# EAGLE library part XCV600E_BG560 (library xilinx-xcv)
xcv600e_bg560 edit this description Auto generated by make-symbol-device-package-bsdl.ulp Rev. 26 Source: xcv600e_bg560.bsd
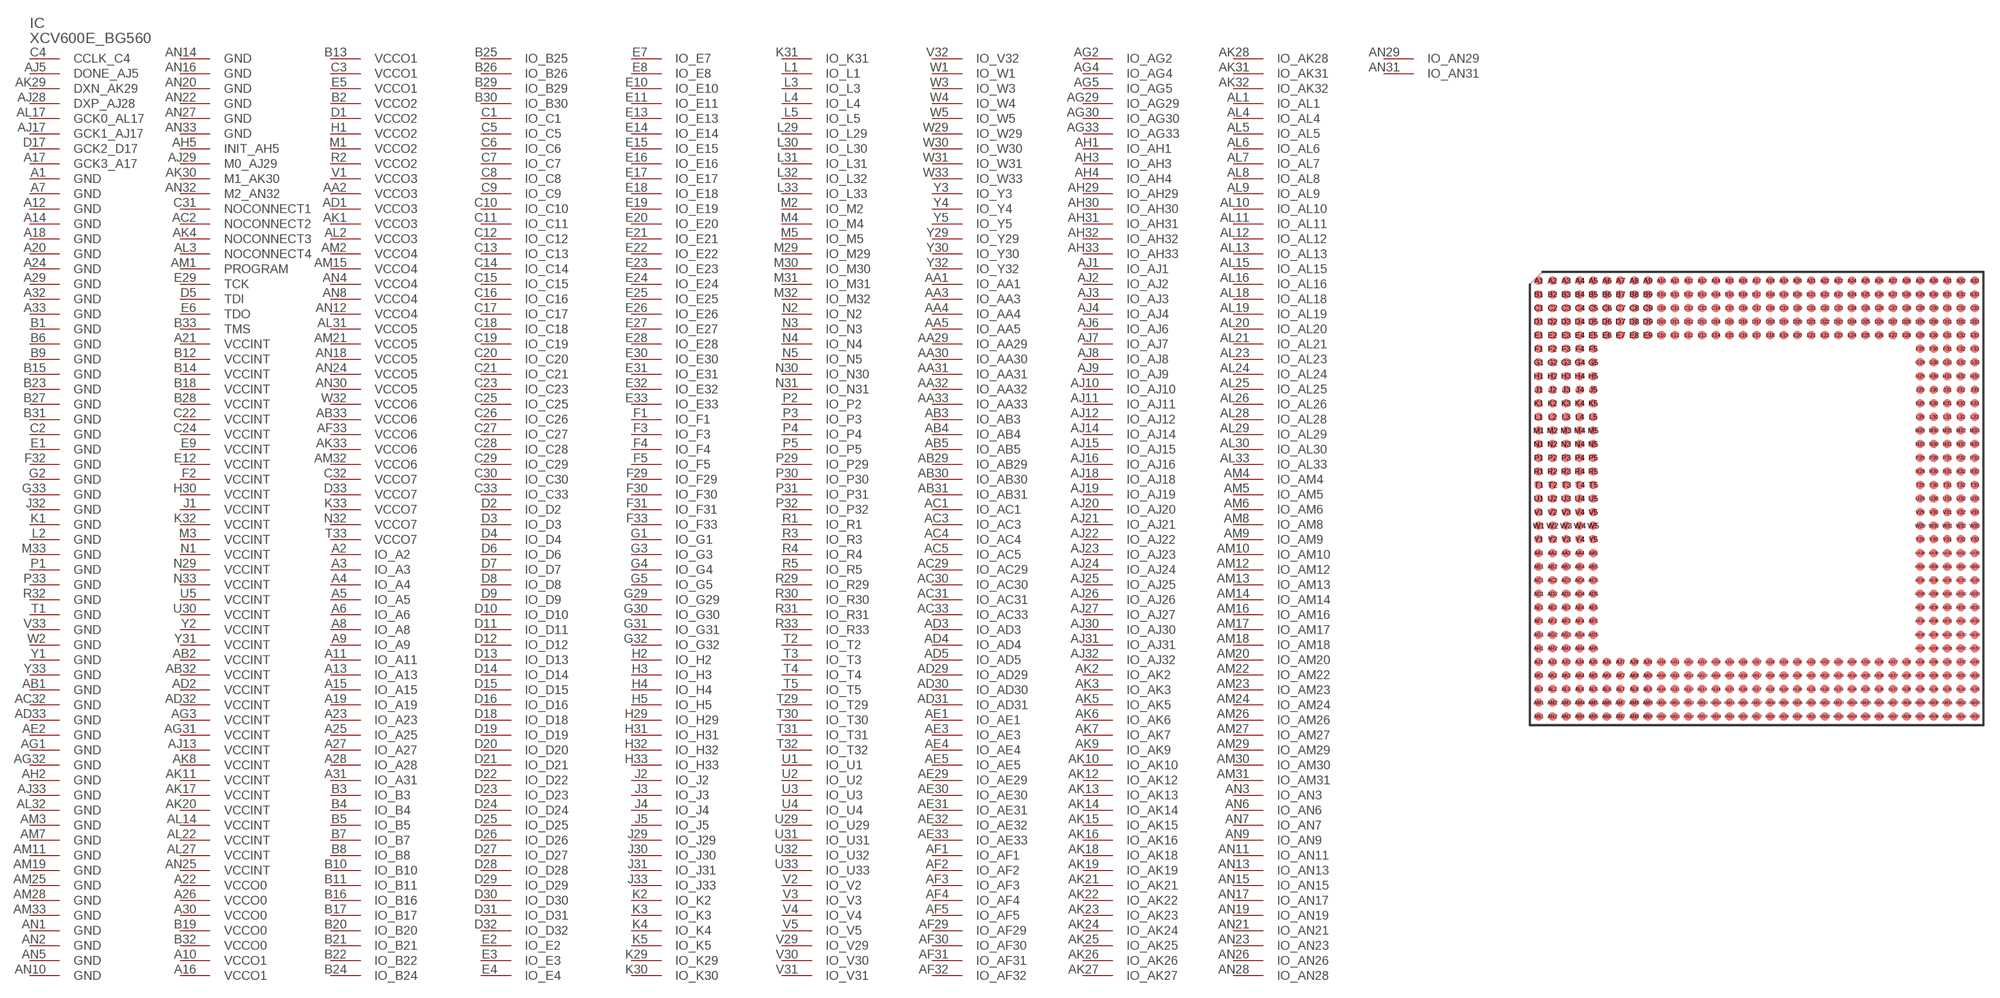
[diagram p115: symbol with the pads of BG560; footprint BG560]

Designator prefix IC

## XCV600E_BG560  [BG560]
A1  GND  pwr
A2  IO_A2
A3  IO_A3
A4  IO_A4
A5  IO_A5
A6  IO_A6
A7  GND  pwr
A8  IO_A8
A9  IO_A9
A10  VCCO1  pwr
A11  IO_A11
A12  GND  pwr
A13  IO_A13
A14  GND  pwr
A15  IO_A15
A16  VCCO1  pwr
A17  GCK3_A17  in
A18  GND  pwr
A19  IO_A19
A20  GND  pwr
A21  VCCINT  pwr
A22  VCCO0  pwr
A23  IO_A23
A24  GND  pwr
A25  IO_A25
A26  VCCO0  pwr
A27  IO_A27
A28  IO_A28
A29  GND  pwr
A30  VCCO0  pwr
A31  IO_A31
A32  GND  pwr
A33  GND  pwr
AA1  IO_AA1
AA2  VCCO3  pwr
AA3  IO_AA3
AA4  IO_AA4
AA5  IO_AA5
AA29  IO_AA29
AA30  IO_AA30
AA31  IO_AA31
AA32  IO_AA32
AA33  IO_AA33
AB1  GND  pwr
AB2  VCCINT  pwr
AB3  IO_AB3
AB4  IO_AB4
AB5  IO_AB5
AB29  IO_AB29
AB30  IO_AB30
AB31  IO_AB31
AB32  VCCINT  pwr
AB33  VCCO6  pwr
AC1  IO_AC1
AC2  NOCONNECT2  pas
AC3  IO_AC3
AC4  IO_AC4
AC5  IO_AC5
AC29  IO_AC29
AC30  IO_AC30
AC31  IO_AC31
AC32  GND  pwr
AC33  IO_AC33
AD1  VCCO3  pwr
AD2  VCCINT  pwr
AD3  IO_AD3
AD4  IO_AD4
AD5  IO_AD5
AD29  IO_AD29
AD30  IO_AD30
AD31  IO_AD31
AD32  VCCINT  pwr
AD33  GND  pwr
AE1  IO_AE1
AE2  GND  pwr
AE3  IO_AE3
AE4  IO_AE4
AE5  IO_AE5
AE29  IO_AE29
AE30  IO_AE30
AE31  IO_AE31
AE32  IO_AE32
AE33  IO_AE33
AF1  IO_AF1
AF2  IO_AF2
AF3  IO_AF3
AF4  IO_AF4
AF5  IO_AF5
AF29  IO_AF29
AF30  IO_AF30
AF31  IO_AF31
AF32  IO_AF32
AF33  VCCO6  pwr
AG1  GND  pwr
AG2  IO_AG2
AG3  VCCINT  pwr
AG4  IO_AG4
AG5  IO_AG5
AG29  IO_AG29
AG30  IO_AG30
AG31  VCCINT  pwr
AG32  GND  pwr
AG33  IO_AG33
AH1  IO_AH1
AH2  GND  pwr
AH3  IO_AH3
AH4  IO_AH4
AH5  INIT_AH5
AH29  IO_AH29
AH30  IO_AH30
AH31  IO_AH31
AH32  IO_AH32
AH33  IO_AH33
AJ1  IO_AJ1
AJ2  IO_AJ2
AJ3  IO_AJ3
AJ4  IO_AJ4
AJ5  DONE_AJ5
AJ6  IO_AJ6
AJ7  IO_AJ7
AJ8  IO_AJ8
AJ9  IO_AJ9
AJ10  IO_AJ10
AJ11  IO_AJ11
AJ12  IO_AJ12
AJ13  VCCINT  pwr
AJ14  IO_AJ14
AJ15  IO_AJ15
AJ16  IO_AJ16
AJ17  GCK1_AJ17  in
AJ18  IO_AJ18
AJ19  IO_AJ19
AJ20  IO_AJ20
AJ21  IO_AJ21
AJ22  IO_AJ22
AJ23  IO_AJ23
AJ24  IO_AJ24
AJ25  IO_AJ25
AJ26  IO_AJ26
AJ27  IO_AJ27
AJ28  DXP_AJ28  pas
AJ29  M0_AJ29  in
AJ30  IO_AJ30
AJ31  IO_AJ31
AJ32  IO_AJ32
AJ33  GND  pwr
AK1  VCCO3  pwr
AK2  IO_AK2
AK3  IO_AK3
AK4  NOCONNECT3  pas
AK5  IO_AK5
AK6  IO_AK6
AK7  IO_AK7
AK8  VCCINT  pwr
AK9  IO_AK9
AK10  IO_AK10
AK11  VCCINT  pwr
AK12  IO_AK12
AK13  IO_AK13
AK14  IO_AK14
AK15  IO_AK15
AK16  IO_AK16
AK17  VCCINT  pwr
AK18  IO_AK18
AK19  IO_AK19
AK20  VCCINT  pwr
AK21  IO_AK21
AK22  IO_AK22
AK23  IO_AK23
AK24  IO_AK24
AK25  IO_AK25
AK26  IO_AK26
AK27  IO_AK27
AK28  IO_AK28
AK29  DXN_AK29  pas
AK30  M1_AK30  in
AK31  IO_AK31
AK32  IO_AK32
AK33  VCCO6  pwr
AL1  IO_AL1
AL2  VCCO3  pwr
AL3  NOCONNECT4  pas
AL4  IO_AL4
AL5  IO_AL5
AL6  IO_AL6
AL7  IO_AL7
AL8  IO_AL8
AL9  IO_AL9
AL10  IO_AL10
AL11  IO_AL11
AL12  IO_AL12
AL13  IO_AL13
AL14  VCCINT  pwr
AL15  IO_AL15
AL16  IO_AL16
AL17  GCK0_AL17  in
AL18  IO_AL18
AL19  IO_AL19
AL20  IO_AL20
AL21  IO_AL21
AL22  VCCINT  pwr
AL23  IO_AL23
AL24  IO_AL24
AL25  IO_AL25
AL26  IO_AL26
AL27  VCCINT  pwr
AL28  IO_AL28
AL29  IO_AL29
AL30  IO_AL30
AL31  VCCO5  pwr
AL32  GND  pwr
AL33  IO_AL33
AM1  PROGRAM  in
AM2  VCCO4  pwr
AM3  GND  pwr
AM4  IO_AM4
AM5  IO_AM5
AM6  IO_AM6
AM7  GND  pwr
AM8  IO_AM8
AM9  IO_AM9
AM10  IO_AM10
AM11  GND  pwr
AM12  IO_AM12
AM13  IO_AM13
AM14  IO_AM14
AM15  VCCO4  pwr
AM16  IO_AM16
AM17  IO_AM17
AM18  IO_AM18
AM19  GND  pwr
AM20  IO_AM20
AM21  VCCO5  pwr
AM22  IO_AM22
AM23  IO_AM23
AM24  IO_AM24
AM25  GND  pwr
AM26  IO_AM26
AM27  IO_AM27
AM28  GND  pwr
AM29  IO_AM29
AM30  IO_AM30
AM31  IO_AM31
AM32  VCCO6  pwr
AM33  GND  pwr
AN1  GND  pwr
AN2  GND  pwr
AN3  IO_AN3
AN4  VCCO4  pwr
AN5  GND  pwr
AN6  IO_AN6
AN7  IO_AN7
AN8  VCCO4  pwr
AN9  IO_AN9
AN10  GND  pwr
AN11  IO_AN11
AN12  VCCO4  pwr
AN13  IO_AN13
AN14  GND  pwr
AN15  IO_AN15
AN16  GND  pwr
AN17  IO_AN17
AN18  VCCO5  pwr
AN19  IO_AN19
AN20  GND  pwr
AN21  IO_AN21
AN22  GND  pwr
AN23  IO_AN23
AN24  VCCO5  pwr
AN25  VCCINT  pwr
AN26  IO_AN26
AN27  GND  pwr
AN28  IO_AN28
AN29  IO_AN29
AN30  VCCO5  pwr
AN31  IO_AN31
AN32  M2_AN32  in
AN33  GND  pwr
B1  GND  pwr
B2  VCCO2  pwr
B3  IO_B3
B4  IO_B4
B5  IO_B5
B6  GND  pwr
B7  IO_B7
B8  IO_B8
B9  GND  pwr
B10  IO_B10
B11  IO_B11
B12  VCCINT  pwr
B13  VCCO1  pwr
B14  VCCINT  pwr
B15  GND  pwr
B16  IO_B16
B17  IO_B17
B18  VCCINT  pwr
B19  VCCO0  pwr
B20  IO_B20
B21  IO_B21
B22  IO_B22
B23  GND  pwr
B24  IO_B24
B25  IO_B25
B26  IO_B26
B27  GND  pwr
B28  VCCINT  pwr
B29  IO_B29
B30  IO_B30
B31  GND  pwr
B32  VCCO0  pwr
B33  TMS  in
C1  IO_C1
C2  GND  pwr
C3  VCCO1  pwr
C4  CCLK_C4
C5  IO_C5
C6  IO_C6
C7  IO_C7
C8  IO_C8
C9  IO_C9
C10  IO_C10
C11  IO_C11
C12  IO_C12
C13  IO_C13
C14  IO_C14
C15  IO_C15
C16  IO_C16
C17  IO_C17
C18  IO_C18
C19  IO_C19
C20  IO_C20
C21  IO_C21
C22  VCCINT  pwr
C23  IO_C23
C24  VCCINT  pwr
C25  IO_C25
C26  IO_C26
C27  IO_C27
C28  IO_C28
C29  IO_C29
C30  IO_C30
C31  NOCONNECT1  pas
C32  VCCO7  pwr
C33  IO_C33
D1  VCCO2  pwr
D2  IO_D2
D3  IO_D3
D4  IO_D4
D5  TDI  in
D6  IO_D6
D7  IO_D7
D8  IO_D8
D9  IO_D9
D10  IO_D10
D11  IO_D11
D12  IO_D12
D13  IO_D13
D14  IO_D14
D15  IO_D15
D16  IO_D16
D17  GCK2_D17  in
D18  IO_D18
D19  IO_D19
D20  IO_D20
D21  IO_D21
D22  IO_D22
D23  IO_D23
D24  IO_D24
D25  IO_D25
D26  IO_D26
D27  IO_D27
D28  IO_D28
D29  IO_D29
D30  IO_D30
D31  IO_D31
D32  IO_D32
D33  VCCO7  pwr
E1  GND  pwr
E2  IO_E2
E3  IO_E3
E4  IO_E4
E5  VCCO1  pwr
E6  TDO  out
E7  IO_E7
E8  IO_E8
E9  VCCINT  pwr
E10  IO_E10
E11  IO_E11
E12  VCCINT  pwr
E13  IO_E13
E14  IO_E14
E15  IO_E15
E16  IO_E16
E17  IO_E17
E18  IO_E18
E19  IO_E19
E20  IO_E20
E21  IO_E21
E22  IO_E22
E23  IO_E23
E24  IO_E24
E25  IO_E25
E26  IO_E26
E27  IO_E27
E28  IO_E28
E29  TCK  in
E30  IO_E30
E31  IO_E31
E32  IO_E32
E33  IO_E33
F1  IO_F1
F2  VCCINT  pwr
F3  IO_F3
F4  IO_F4
F5  IO_F5
F29  IO_F29
F30  IO_F30
F31  IO_F31
F32  GND  pwr
F33  IO_F33
G1  IO_G1
G2  GND  pwr
G3  IO_G3
G4  IO_G4
G5  IO_G5
G29  IO_G29
G30  IO_G30
G31  IO_G31
G32  IO_G32
G33  GND  pwr
H1  VCCO2  pwr
H2  IO_H2
H3  IO_H3
H4  IO_H4
H5  IO_H5
H29  IO_H29
H30  VCCINT  pwr
H31  IO_H31
H32  IO_H32
H33  IO_H33
J1  VCCINT  pwr
J2  IO_J2
J3  IO_J3
J4  IO_J4
J5  IO_J5
J29  IO_J29
J30  IO_J30
J31  IO_J31
J32  GND  pwr
J33  IO_J33
K1  GND  pwr
K2  IO_K2
K3  IO_K3
K4  IO_K4
K5  IO_K5
K29  IO_K29
K30  IO_K30
K31  IO_K31
K32  VCCINT  pwr
K33  VCCO7  pwr
L1  IO_L1
L2  GND  pwr
L3  IO_L3
L4  IO_L4
L5  IO_L5
L29  IO_L29
L30  IO_L30
L31  IO_L31
L32  IO_L32
L33  IO_L33
M1  VCCO2  pwr
M2  IO_M2
M3  VCCINT  pwr
M4  IO_M4
M5  IO_M5
M29  IO_M29
M30  IO_M30
M31  IO_M31
M32  IO_M32
M33  GND  pwr
N1  VCCINT  pwr
N2  IO_N2
N3  IO_N3
N4  IO_N4
N5  IO_N5
N29  VCCINT  pwr
N30  IO_N30
N31  IO_N31
N32  VCCO7  pwr
N33  VCCINT  pwr
P1  GND  pwr
P2  IO_P2
P3  IO_P3
P4  IO_P4
P5  IO_P5
P29  IO_P29
P30  IO_P30
P31  IO_P31
P32  IO_P32
P33  GND  pwr
R1  IO_R1
R2  VCCO2  pwr
R3  IO_R3
R4  IO_R4
R5  IO_R5
R29  IO_R29
R30  IO_R30
R31  IO_R31
R32  GND  pwr
R33  IO_R33
T1  GND  pwr
T2  IO_T2
T3  IO_T3
T4  IO_T4
T5  IO_T5
T29  IO_T29
T30  IO_T30
T31  IO_T31
T32  IO_T32
T33  VCCO7  pwr
U1  IO_U1
U2  IO_U2
U3  IO_U3
U4  IO_U4
U5  VCCINT  pwr
U29  IO_U29
U30  VCCINT  pwr
U31  IO_U31
U32  IO_U32
U33  IO_U33
V1  VCCO3  pwr
V2  IO_V2
V3  IO_V3
V4  IO_V4
V5  IO_V5
V29  IO_V29
V30  IO_V30
V31  IO_V31
V32  IO_V32
V33  GND  pwr
W1  IO_W1
W2  GND  pwr
W3  IO_W3
W4  IO_W4
W5  IO_W5
W29  IO_W29
W30  IO_W30
W31  IO_W31
W32  VCCO6  pwr
W33  IO_W33
Y1  GND  pwr
Y2  VCCINT  pwr
Y3  IO_Y3
Y4  IO_Y4
Y5  IO_Y5
Y29  IO_Y29
Y30  IO_Y30
Y31  VCCINT  pwr
Y32  IO_Y32
Y33  GND  pwr

## Footprint BG560 (pad centres in mm)
Metal BGA (BG560) Auto generated by make-symbol-device-package-bsdl.ulp Rev. 26 Source: xcv1000_bg560_1532.bsd; bg560.pdf
smd 0.8 x 0.8: A1 -20.32,20.32; A2 -19.05,20.32; A3 -17.78,20.32; A4 -16.51,20.32; A5 -15.24,20.32; A6 -13.97,20.32; A7 -12.7,20.32; A8 -11.43,20.32; A9 -10.16,20.32; A10 -8.89,20.32; A11 -7.62,20.32; A12 -6.35,20.32; A13 -5.08,20.32; A14 -3.81,20.32; A15 -2.54,20.32; A16 -1.27,20.32; A17 0,20.32; A18 1.27,20.32; A19 2.54,20.32; A20 3.81,20.32; A21 5.08,20.32; A22 6.35,20.32; A23 7.62,20.32; A24 8.89,20.32; A25 10.16,20.32; A26 11.43,20.32; A27 12.7,20.32; A28 13.97,20.32; A29 15.24,20.32; A30 16.51,20.32; A31 17.78,20.32; A32 19.05,20.32; A33 20.32,20.32; AA1 -20.32,-5.08; AA2 -19.05,-5.08; AA3 -17.78,-5.08; AA4 -16.51,-5.08; AA5 -15.24,-5.08; AA29 15.24,-5.08; AA30 16.51,-5.08; AA31 17.78,-5.08; AA32 19.05,-5.08; AA33 20.32,-5.08; AB1 -20.32,-6.35; AB2 -19.05,-6.35; AB3 -17.78,-6.35; AB4 -16.51,-6.35; AB5 -15.24,-6.35; AB29 15.24,-6.35; AB30 16.51,-6.35; AB31 17.78,-6.35; AB32 19.05,-6.35; AB33 20.32,-6.35; AC1 -20.32,-7.62; AC2 -19.05,-7.62; AC3 -17.78,-7.62; AC4 -16.51,-7.62; AC5 -15.24,-7.62; AC29 15.24,-7.62; AC30 16.51,-7.62; AC31 17.78,-7.62; AC32 19.05,-7.62; AC33 20.32,-7.62; AD1 -20.32,-8.89; AD2 -19.05,-8.89; AD3 -17.78,-8.89; AD4 -16.51,-8.89; AD5 -15.24,-8.89; AD29 15.24,-8.89; AD30 16.51,-8.89; AD31 17.78,-8.89; AD32 19.05,-8.89; AD33 20.32,-8.89; AE1 -20.32,-10.16; AE2 -19.05,-10.16; AE3 -17.78,-10.16; AE4 -16.51,-10.16; AE5 -15.24,-10.16; AE29 15.24,-10.16; AE30 16.51,-10.16; AE31 17.78,-10.16; AE32 19.05,-10.16; AE33 20.32,-10.16; AF1 -20.32,-11.43; AF2 -19.05,-11.43; AF3 -17.78,-11.43; AF4 -16.51,-11.43; AF5 -15.24,-11.43; AF29 15.24,-11.43; AF30 16.51,-11.43; AF31 17.78,-11.43; AF32 19.05,-11.43; AF33 20.32,-11.43; AG1 -20.32,-12.7; AG2 -19.05,-12.7; AG3 -17.78,-12.7; AG4 -16.51,-12.7; AG5 -15.24,-12.7; AG29 15.24,-12.7; AG30 16.51,-12.7; AG31 17.78,-12.7; AG32 19.05,-12.7; AG33 20.32,-12.7; AH1 -20.32,-13.97; AH2 -19.05,-13.97; AH3 -17.78,-13.97; AH4 -16.51,-13.97; AH5 -15.24,-13.97; AH29 15.24,-13.97; AH30 16.51,-13.97; AH31 17.78,-13.97; AH32 19.05,-13.97; AH33 20.32,-13.97; AJ1 -20.32,-15.24; AJ2 -19.05,-15.24; AJ3 -17.78,-15.24; AJ4 -16.51,-15.24; AJ5 -15.24,-15.24; AJ6 -13.97,-15.24; AJ7 -12.7,-15.24; AJ8 -11.43,-15.24; AJ9 -10.16,-15.24; AJ10 -8.89,-15.24; AJ11 -7.62,-15.24; AJ12 -6.35,-15.24; AJ13 -5.08,-15.24; AJ14 -3.81,-15.24; AJ15 -2.54,-15.24; AJ16 -1.27,-15.24; AJ17 0,-15.24; AJ18 1.27,-15.24; AJ19 2.54,-15.24; AJ20 3.81,-15.24; AJ21 5.08,-15.24; AJ22 6.35,-15.24; AJ23 7.62,-15.24; AJ24 8.89,-15.24; AJ25 10.16,-15.24; AJ26 11.43,-15.24; AJ27 12.7,-15.24; AJ28 13.97,-15.24; AJ29 15.24,-15.24; AJ30 16.51,-15.24; AJ31 17.78,-15.24; AJ32 19.05,-15.24; AJ33 20.32,-15.24; AK1 -20.32,-16.51; AK2 -19.05,-16.51; AK3 -17.78,-16.51; AK4 -16.51,-16.51; AK5 -15.24,-16.51; AK6 -13.97,-16.51; AK7 -12.7,-16.51; AK8 -11.43,-16.51; AK9 -10.16,-16.51; AK10 -8.89,-16.51; AK11 -7.62,-16.51; AK12 -6.35,-16.51; AK13 -5.08,-16.51; AK14 -3.81,-16.51; AK15 -2.54,-16.51; AK16 -1.27,-16.51; AK17 0,-16.51; AK18 1.27,-16.51; AK19 2.54,-16.51; AK20 3.81,-16.51; AK21 5.08,-16.51; AK22 6.35,-16.51; AK23 7.62,-16.51; AK24 8.89,-16.51; AK25 10.16,-16.51; AK26 11.43,-16.51; AK27 12.7,-16.51; AK28 13.97,-16.51; AK29 15.24,-16.51; AK30 16.51,-16.51; AK31 17.78,-16.51; AK32 19.05,-16.51; AK33 20.32,-16.51; AL1 -20.32,-17.78; AL2 -19.05,-17.78; AL3 -17.78,-17.78; AL4 -16.51,-17.78; AL5 -15.24,-17.78; AL6 -13.97,-17.78; AL7 -12.7,-17.78; AL8 -11.43,-17.78; AL9 -10.16,-17.78; AL10 -8.89,-17.78; AL11 -7.62,-17.78; AL12 -6.35,-17.78; AL13 -5.08,-17.78; AL14 -3.81,-17.78; AL15 -2.54,-17.78; AL16 -1.27,-17.78; AL17 0,-17.78; AL18 1.27,-17.78; AL19 2.54,-17.78; AL20 3.81,-17.78; AL21 5.08,-17.78; AL22 6.35,-17.78; AL23 7.62,-17.78; AL24 8.89,-17.78; AL25 10.16,-17.78; AL26 11.43,-17.78; AL27 12.7,-17.78; AL28 13.97,-17.78; AL29 15.24,-17.78; AL30 16.51,-17.78; AL31 17.78,-17.78; AL32 19.05,-17.78; AL33 20.32,-17.78; AM1 -20.32,-19.05; AM2 -19.05,-19.05; AM3 -17.78,-19.05; AM4 -16.51,-19.05; AM5 -15.24,-19.05; AM6 -13.97,-19.05; AM7 -12.7,-19.05; AM8 -11.43,-19.05; AM9 -10.16,-19.05; AM10 -8.89,-19.05; AM11 -7.62,-19.05; AM12 -6.35,-19.05; AM13 -5.08,-19.05; AM14 -3.81,-19.05; AM15 -2.54,-19.05; AM16 -1.27,-19.05; AM17 0,-19.05; AM18 1.27,-19.05; AM19 2.54,-19.05; AM20 3.81,-19.05; AM21 5.08,-19.05; AM22 6.35,-19.05; AM23 7.62,-19.05; AM24 8.89,-19.05; AM25 10.16,-19.05; AM26 11.43,-19.05; AM27 12.7,-19.05; AM28 13.97,-19.05; AM29 15.24,-19.05; AM30 16.51,-19.05; AM31 17.78,-19.05; AM32 19.05,-19.05; AM33 20.32,-19.05; AN1 -20.32,-20.32; AN2 -19.05,-20.32; AN3 -17.78,-20.32; AN4 -16.51,-20.32; AN5 -15.24,-20.32; AN6 -13.97,-20.32; AN7 -12.7,-20.32; AN8 -11.43,-20.32; AN9 -10.16,-20.32; AN10 -8.89,-20.32; AN11 -7.62,-20.32; AN12 -6.35,-20.32; AN13 -5.08,-20.32; AN14 -3.81,-20.32; AN15 -2.54,-20.32; AN16 -1.27,-20.32; AN17 0,-20.32; AN18 1.27,-20.32; AN19 2.54,-20.32; AN20 3.81,-20.32; AN21 5.08,-20.32; AN22 6.35,-20.32; AN23 7.62,-20.32; AN24 8.89,-20.32; AN25 10.16,-20.32; AN26 11.43,-20.32; AN27 12.7,-20.32; AN28 13.97,-20.32; AN29 15.24,-20.32; AN30 16.51,-20.32; AN31 17.78,-20.32; AN32 19.05,-20.32; AN33 20.32,-20.32; B1 -20.32,19.05; B2 -19.05,19.05; B3 -17.78,19.05; B4 -16.51,19.05; B5 -15.24,19.05; B6 -13.97,19.05; B7 -12.7,19.05; B8 -11.43,19.05; B9 -10.16,19.05; B10 -8.89,19.05; B11 -7.62,19.05; B12 -6.35,19.05; B13 -5.08,19.05; B14 -3.81,19.05; B15 -2.54,19.05; B16 -1.27,19.05; B17 0,19.05; B18 1.27,19.05; B19 2.54,19.05; B20 3.81,19.05; B21 5.08,19.05; B22 6.35,19.05; B23 7.62,19.05; B24 8.89,19.05; B25 10.16,19.05; B26 11.43,19.05; B27 12.7,19.05; B28 13.97,19.05; B29 15.24,19.05; B30 16.51,19.05; B31 17.78,19.05; B32 19.05,19.05; B33 20.32,19.05; C1 -20.32,17.78; C2 -19.05,17.78; C3 -17.78,17.78; C4 -16.51,17.78; C5 -15.24,17.78; C6 -13.97,17.78; C7 -12.7,17.78; C8 -11.43,17.78; C9 -10.16,17.78; C10 -8.89,17.78; C11 -7.62,17.78; C12 -6.35,17.78; C13 -5.08,17.78; C14 -3.81,17.78; C15 -2.54,17.78; C16 -1.27,17.78; C17 0,17.78; C18 1.27,17.78; C19 2.54,17.78; C20 3.81,17.78; C21 5.08,17.78; C22 6.35,17.78; C23 7.62,17.78; C24 8.89,17.78; C25 10.16,17.78; C26 11.43,17.78; C27 12.7,17.78; C28 13.97,17.78; C29 15.24,17.78; C30 16.51,17.78; C31 17.78,17.78; C32 19.05,17.78; C33 20.32,17.78; D1 -20.32,16.51; D2 -19.05,16.51; D3 -17.78,16.51; D4 -16.51,16.51; D5 -15.24,16.51; D6 -13.97,16.51; D7 -12.7,16.51; D8 -11.43,16.51; D9 -10.16,16.51; D10 -8.89,16.51; D11 -7.62,16.51; D12 -6.35,16.51; D13 -5.08,16.51; D14 -3.81,16.51; D15 -2.54,16.51; D16 -1.27,16.51; D17 0,16.51; D18 1.27,16.51; D19 2.54,16.51; D20 3.81,16.51; D21 5.08,16.51; D22 6.35,16.51; D23 7.62,16.51; D24 8.89,16.51; D25 10.16,16.51; D26 11.43,16.51; D27 12.7,16.51; D28 13.97,16.51; D29 15.24,16.51; D30 16.51,16.51; D31 17.78,16.51; D32 19.05,16.51; D33 20.32,16.51; E1 -20.32,15.24; E2 -19.05,15.24; E3 -17.78,15.24; E4 -16.51,15.24; E5 -15.24,15.24; E6 -13.97,15.24; E7 -12.7,15.24; E8 -11.43,15.24; E9 -10.16,15.24; E10 -8.89,15.24; E11 -7.62,15.24; E12 -6.35,15.24; E13 -5.08,15.24; E14 -3.81,15.24; E15 -2.54,15.24; E16 -1.27,15.24; E17 0,15.24; E18 1.27,15.24; E19 2.54,15.24; E20 3.81,15.24; E21 5.08,15.24; E22 6.35,15.24; E23 7.62,15.24; E24 8.89,15.24; E25 10.16,15.24; E26 11.43,15.24; E27 12.7,15.24; E28 13.97,15.24; E29 15.24,15.24; E30 16.51,15.24; E31 17.78,15.24; E32 19.05,15.24; E33 20.32,15.24; F1 -20.32,13.97; F2 -19.05,13.97; F3 -17.78,13.97; F4 -16.51,13.97; F5 -15.24,13.97; F29 15.24,13.97; F30 16.51,13.97; F31 17.78,13.97; F32 19.05,13.97; F33 20.32,13.97; G1 -20.32,12.7; G2 -19.05,12.7; G3 -17.78,12.7; G4 -16.51,12.7; G5 -15.24,12.7; G29 15.24,12.7; G30 16.51,12.7; G31 17.78,12.7; G32 19.05,12.7; G33 20.32,12.7; H1 -20.32,11.43; H2 -19.05,11.43; H3 -17.78,11.43; H4 -16.51,11.43; H5 -15.24,11.43; H29 15.24,11.43; H30 16.51,11.43; H31 17.78,11.43; H32 19.05,11.43; H33 20.32,11.43; J1 -20.32,10.16; J2 -19.05,10.16; J3 -17.78,10.16; J4 -16.51,10.16; J5 -15.24,10.16; J29 15.24,10.16; J30 16.51,10.16; J31 17.78,10.16; J32 19.05,10.16; J33 20.32,10.16; K1 -20.32,8.89; K2 -19.05,8.89; K3 -17.78,8.89; K4 -16.51,8.89; K5 -15.24,8.89; K29 15.24,8.89; K30 16.51,8.89; K31 17.78,8.89; K32 19.05,8.89; K33 20.32,8.89; L1 -20.32,7.62; L2 -19.05,7.62; L3 -17.78,7.62; L4 -16.51,7.62; L5 -15.24,7.62; L29 15.24,7.62; L30 16.51,7.62; L31 17.78,7.62; L32 19.05,7.62; L33 20.32,7.62; M1 -20.32,6.35; M2 -19.05,6.35; M3 -17.78,6.35; M4 -16.51,6.35; M5 -15.24,6.35; M29 15.24,6.35; M30 16.51,6.35; M31 17.78,6.35; M32 19.05,6.35; M33 20.32,6.35; N1 -20.32,5.08; N2 -19.05,5.08; N3 -17.78,5.08; N4 -16.51,5.08; N5 -15.24,5.08; N29 15.24,5.08; N30 16.51,5.08; N31 17.78,5.08; N32 19.05,5.08; N33 20.32,5.08; P1 -20.32,3.81; P2 -19.05,3.81; P3 -17.78,3.81; P4 -16.51,3.81; P5 -15.24,3.81; P29 15.24,3.81; P30 16.51,3.81; P31 17.78,3.81; P32 19.05,3.81; P33 20.32,3.81; R1 -20.32,2.54; R2 -19.05,2.54; R3 -17.78,2.54; R4 -16.51,2.54; R5 -15.24,2.54; R29 15.24,2.54; R30 16.51,2.54; R31 17.78,2.54; R32 19.05,2.54; R33 20.32,2.54; T1 -20.32,1.27; T2 -19.05,1.27; T3 -17.78,1.27; T4 -16.51,1.27; T5 -15.24,1.27; T29 15.24,1.27; T30 16.51,1.27; T31 17.78,1.27; T32 19.05,1.27; T33 20.32,1.27; U1 -20.32,0; U2 -19.05,0; U3 -17.78,0; U4 -16.51,0; U5 -15.24,0; U29 15.24,0; U30 16.51,0; U31 17.78,0; U32 19.05,0; U33 20.32,0; V1 -20.32,-1.27; V2 -19.05,-1.27; V3 -17.78,-1.27; V4 -16.51,-1.27; V5 -15.24,-1.27; V29 15.24,-1.27; V30 16.51,-1.27; V31 17.78,-1.27; V32 19.05,-1.27; V33 20.32,-1.27; W1 -20.32,-2.54; W2 -19.05,-2.54; W3 -17.78,-2.54; W4 -16.51,-2.54; W5 -15.24,-2.54; W29 15.24,-2.54; W30 16.51,-2.54; W31 17.78,-2.54; W32 19.05,-2.54; W33 20.32,-2.54; Y1 -20.32,-3.81; Y2 -19.05,-3.81; Y3 -17.78,-3.81; Y4 -16.51,-3.81; Y5 -15.24,-3.81; Y29 15.24,-3.81; Y30 16.51,-3.81; Y31 17.78,-3.81; Y32 19.05,-3.81; Y33 20.32,-3.81